# Altium schematic symbol library TPS74601PBDRVR.SchLib: 1 symbol
Pins are listed as number, name and electrical type; pins without a type are passive.

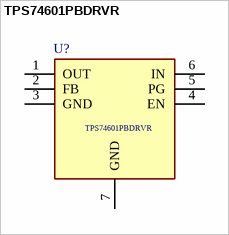
[diagram p0: symbol TPS74601PBDRVR]

## TPS74601PBDRVR
designator U?
Adjustable 1-A low-dropout (LDO) linear regulator with power good; Manufacturer_Name: Texas Instruments; Geometry.Height: 0.8mm; Mouser Part Number: 595-TPS74601PBDRVR; Mouser Price/Stock: https://www.mouser.co.uk/ProductDetail/Texas-Instruments/TPS74601PBDRVR?qs=PqoDHHvF64%252B93w4aKhWy6Q%3D%3D; Manufacturer_Part_Number: TPS74601PBDRVR; Datasheet Link: http://www.ti.com/lit/gpn/TPS746
footprint SON65P200X200X80-7N
pins: 1 OUT, 2 FB, 3 GND, 4 EN, 5 PG, 6 IN, 7 GND